# Altium footprint library PcbLib1.PcbLib: 7 footprints
Each footprint in its own frame and in the unit in brackets; x right, y up, seen from the top. Pads: shape width x height; smd on the part's side, far side on the other; paste and mask are expansions set on the pad; w line width, h text height; cw(c..) or ccw(c..) is an arc to the next point about the centre after c.
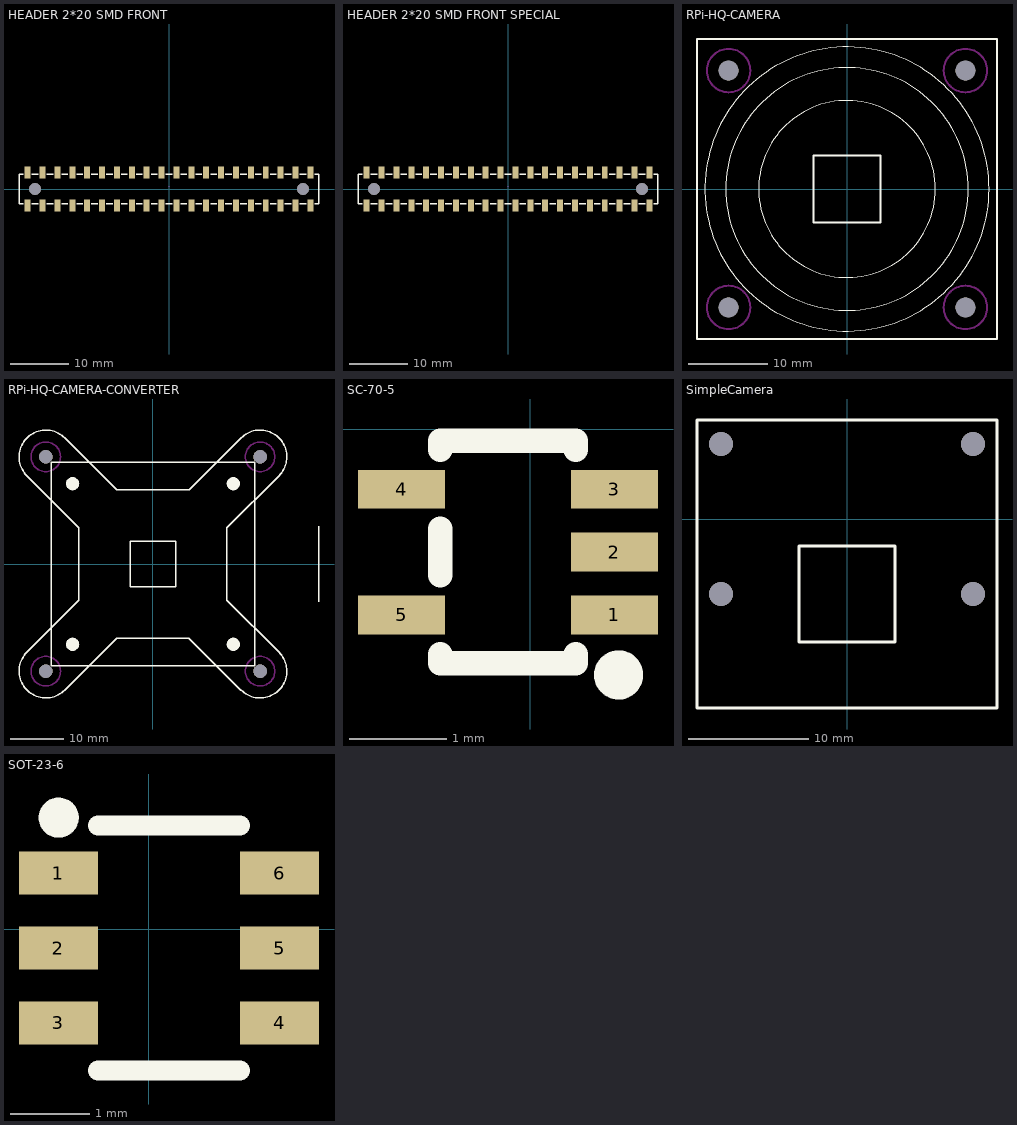
[diagram p0: the footprints below, top view; thin cyan lines are the x and y axes]

## HEADER 2*20 SMD FRONT [mm] "https://item.szlcsc.com/2784386.html"
pads (42):
  rect 1.02x2 smd: 1(24.13,-2.8) 2(24.13,2.8) 3(21.59,-2.8) 4(21.59,2.8) 5(19.05,-2.8) 6(19.05,2.8) 7(16.51,-2.8) 8(16.51,2.8) 9(13.97,-2.8) 10(13.97,2.8) 11(11.43,-2.8) 12(11.43,2.8) 13(8.89,-2.8) 14(8.89,2.8) 15(6.35,-2.8) 16(6.35,2.8) 17(3.81,-2.8) 18(3.81,2.8) 19(1.27,-2.8) 20(1.27,2.8) 21(-1.27,-2.8) 22(-1.27,2.8) 23(-3.81,-2.8) 24(-3.81,2.8) 25(-6.35,-2.8) 26(-6.35,2.8) 27(-8.89,-2.8) 28(-8.89,2.8) 29(-11.43,-2.8) 30(-11.43,2.8) 31(-13.97,-2.8) 32(-13.97,2.8) 33(-16.51,-2.8) 34(-16.51,2.8) 35(-19.05,-2.8) 36(-19.05,2.8) 37(-21.59,-2.8) 38(-21.59,2.8) 39(-24.13,-2.8) 40(-24.13,2.8)
  round 2 hole 2 unplated: ""(-22.86,0) ""(22.86,0)
Top Overlay:
  lines w0.254: -25.6,2.54 -24.871,2.54 ; -25.6,2.54 -25.6,-2.54 -24.871,-2.54 ; -23.389,-2.54 -22.331,-2.54 ; -23.389,2.54 -22.331,2.54 ; -20.849,-2.54 -19.791,-2.54 ; -20.849,2.54 -19.791,2.54 ; -18.309,-2.54 -17.251,-2.54 ; -18.309,2.54 -17.251,2.54 ; -15.769,-2.54 -14.711,-2.54 ; -15.769,2.54 -14.711,2.54 ; -13.229,-2.54 -12.171,-2.54 ; -13.229,2.54 -12.171,2.54 ; -10.689,-2.54 -9.631,-2.54 ; -10.689,2.54 -9.631,2.54 ; -8.149,-2.54 -7.091,-2.54 ; -8.149,2.54 -7.091,2.54 ; -5.609,-2.54 -4.551,-2.54 ; -5.609,2.54 -4.551,2.54 ; -3.069,-2.54 -2.011,-2.54 ; -3.069,2.54 -2.011,2.54 ; -0.529,-2.54 0.529,-2.54 ; -0.529,2.54 0.529,2.54 ; 2.011,-2.54 3.069,-2.54 ; 2.011,2.54 3.069,2.54 ; 4.551,-2.54 5.609,-2.54 ; 4.551,2.54 5.609,2.54 ; 7.091,-2.54 8.149,-2.54 ; 7.091,2.54 8.149,2.54 ; 9.631,-2.54 10.689,-2.54 ; 9.631,2.54 10.689,2.54 ; 12.171,-2.54 13.229,-2.54 ; 12.171,2.54 13.229,2.54 ; 14.711,-2.54 15.769,-2.54 ; 14.711,2.54 15.769,2.54 ; 17.251,-2.54 18.309,-2.54 ; 17.251,2.54 18.309,2.54 ; 19.791,-2.54 20.849,-2.54 ; 19.791,2.54 20.849,2.54 ; 22.331,-2.54 23.389,-2.54 ; 22.331,2.54 23.389,2.54 ; 24.871,-2.54 25.6,-2.54 25.6,2.54 24.871,2.54
Mechanical 15:
  lines w0.003: 0,0.46 0,0.46

## HEADER 2*20 SMD FRONT SPECIAL [mm] "https://item.szlcsc.com/2784386.html"
pads (42):
  rect 1.02x2 smd: 1(24.13,-2.8) 2(24.13,2.8) 3(21.59,-2.8) 4(21.59,2.8) 5(19.05,-2.8) 6(19.05,2.8) 7(16.51,-2.8) 8(16.51,2.8) 9(13.97,-2.8) 10(13.97,2.8) 11(11.43,-2.8) 12(11.43,2.8) 13(8.89,-2.8) 14(8.89,2.8) 15(6.35,-2.8) 16(6.35,2.8) 17(3.81,-2.8) 18(3.81,2.8) 19(1.27,-2.8) 20(1.27,2.8) 21(-1.27,-2.8) 22(-1.27,2.8) 23(-3.81,-2.8) 24(-3.81,2.8) 25(-6.35,-2.8) 26(-6.35,2.8) 27(-8.89,-2.8) 28(-8.89,2.8) 29(-11.43,-2.8) 30(-11.43,2.8) 31(-13.97,-2.8) 32(-13.97,2.8) 33(-16.51,-2.8) 34(-16.51,2.8) 35(-19.05,-2.8) 36(-19.05,2.8) 37(-21.59,-2.8) 38(-21.59,2.8) 39(-24.13,-2.8) 40(-24.13,2.8)
  round 2 hole 2 unplated: ""(-22.86,0) ""(22.86,0)
Top Overlay:
  lines w0.254: -25.6,2.54 -24.871,2.54 ; -25.6,2.54 -25.6,-2.54 -24.871,-2.54 ; -23.389,-2.54 -22.331,-2.54 ; -23.389,2.54 -22.331,2.54 ; -20.849,-2.54 -19.791,-2.54 ; -20.849,2.54 -19.791,2.54 ; -18.309,-2.54 -17.251,-2.54 ; -18.309,2.54 -17.251,2.54 ; -15.769,-2.54 -14.711,-2.54 ; -15.769,2.54 -14.711,2.54 ; -13.229,-2.54 -12.171,-2.54 ; -13.229,2.54 -12.171,2.54 ; -10.689,-2.54 -9.631,-2.54 ; -10.689,2.54 -9.631,2.54 ; -8.149,-2.54 -7.091,-2.54 ; -8.149,2.54 -7.091,2.54 ; -5.609,-2.54 -4.551,-2.54 ; -5.609,2.54 -4.551,2.54 ; -3.069,-2.54 -2.011,-2.54 ; -3.069,2.54 -2.011,2.54 ; -0.529,-2.54 0.529,-2.54 ; -0.529,2.54 0.529,2.54 ; 2.011,-2.54 3.069,-2.54 ; 2.011,2.54 3.069,2.54 ; 4.551,-2.54 5.609,-2.54 ; 4.551,2.54 5.609,2.54 ; 7.091,-2.54 8.149,-2.54 ; 7.091,2.54 8.149,2.54 ; 9.631,-2.54 10.689,-2.54 ; 9.631,2.54 10.689,2.54 ; 12.171,-2.54 13.229,-2.54 ; 12.171,2.54 13.229,2.54 ; 14.711,-2.54 15.769,-2.54 ; 14.711,2.54 15.769,2.54 ; 17.251,-2.54 18.309,-2.54 ; 17.251,2.54 18.309,2.54 ; 19.791,-2.54 20.849,-2.54 ; 19.791,2.54 20.849,2.54 ; 22.331,-2.54 23.389,-2.54 ; 22.331,2.54 23.389,2.54 ; 24.871,-2.54 25.6,-2.54 25.6,2.54 24.871,2.54
Mechanical 15:
  lines w0.003: 0,0.46 0,0.46

## RPi-HQ-CAMERA [mm]
pads (4):
  round 2.5 hole 2.5 unplated: ""(-15,-15) ""(-15,15) ""(15,-15) ""(15,15)
Top Overlay:
  circle w0.1: c0,0 r15.375
  circle w0.1: c0,0 r18
  circle w0.1: c0,0 r11.2
  lines w0.254: -19,-19 19,-19 19,19 -19,19 -19,-19 ; -4.25,-4.25 4.25,-4.25 4.25,4.25 -4.25,4.25 -4.25,-4.25
Top Solder:
  drawing of 4 lines, arcs and shapes, not listed
Keep-Out Layer:
  circle w0.254: c15,15 r2.75
  circle w0.254: c15,-15 r2.75
  circle w0.254: c-15,-15 r2.75
  circle w0.254: c-15,15 r2.75

## RPi-HQ-CAMERA-CONVERTER [mm]
pads (8):
  round 2.5 hole 2.5 unplated: ""(-20,-20) ""(-20,20) ""(20,-20) ""(20,20)
  round 2.5 on Top Overlay: ""(-15,-15) ""(-15,15) ""(15,-15) ""(15,15)
Top Overlay:
  lines w0.254: 16.439,-23.536 6.721,-13.818 -6.747,-13.818 -16.464,-23.536 cw(c-20,-20) -23.536,-16.464 -13.818,-6.747 -13.818,6.747 -23.536,16.464 cw(c-20,20) -16.464,23.536 ; 16.464,-23.536 ccw(c20,-20) 23.536,-16.464 13.818,-6.747 13.818,6.747 23.536,16.464 ccw(c20,20) 16.464,23.536 6.747,13.818 -6.747,13.818 -16.464,23.536 ; 31,-7 31,7 ; -16.464,23.536 -16.464,23.536 ; -19,-19 -19,19 19,19 19,-19 -19,-19 ; -4.25,-4.25 4.25,-4.25 4.25,4.25 -4.25,4.25 -4.25,-4.25
Top Solder:
  drawing of 4 lines, arcs and shapes, not listed
Bottom Solder:
  drawing of 4 lines, arcs and shapes, not listed
Keep-Out Layer:
  circle w0.254: c-20,-20 r2.75
  circle w0.254: c-20,20 r2.75
  circle w0.254: c20,20 r2.75
  circle w0.254: c20,-20 r2.75

## SC-70-5 [mm] "https://item.szlcsc.com/485828.html"
pads (5):
  rect 0.9x0.4 smd: 1(0.872,-1.92) 2(0.872,-1.27) 3(0.872,-0.62) 4(-1.328,-0.62) 5(-1.328,-1.92)
Top Overlay:
  circle w0.254: c0.915,-2.54 r0.127
  lines w0.254: -0.928,-2.328 -0.928,-2.42 0.472,-2.42 0.472,-2.328 ; -0.928,-1.512 -0.928,-1.028 ; -0.928,-0.212 -0.928,-0.12 0.472,-0.12 0.472,-0.212

## SimpleCamera [mm]
pads (4):
  round 2 hole 2 unplated: ""(-10.5,-6.25) ""(-10.5,6.25) ""(10.5,-6.25) ""(10.5,6.25)
Top Overlay:
  lines w0.254: -12.5,-15.75 12.5,-15.75 12.5,8.25 -12.5,8.25 -12.5,-15.75 ; -4,-10.25 -4,-2.25 4,-2.25 4,-10.25 -4,-10.25

## SOT-23-6 [mm] "https://item.szlcsc.com/168890.html"
pads (6):
  rect 1x0.55 smd: 1(-1.143,0.711) 2(-1.143,-0.239) 3(-1.143,-1.189) 4(1.657,-1.189) 5(1.657,-0.239) 6(1.657,0.711)
Top Overlay:
  circle w0.254: c-1.14,1.412 r0.127
  lines w0.254: -0.643,-1.789 1.157,-1.789 ; -0.643,1.311 1.157,1.311
Mechanical 15:
  circle w0.2: c-1.143,0.711 r0.1